# EAGLE library part MEM_NORFLASH_8PIN_EP (library !GPLIB_ACTIVE)
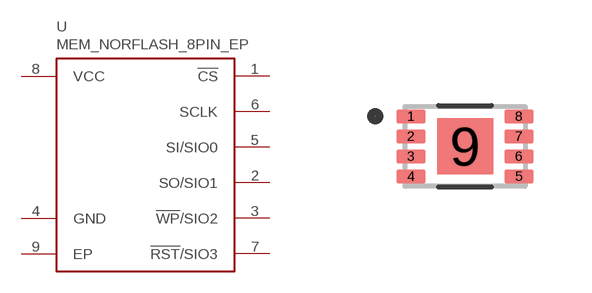
[diagram p114: symbol with the pads of PSON50P200X300X60-9N; footprint PSON50P200X300X60-9N]

Designator prefix U

## MEM_NORFLASH_8PIN_EP_256K_8_ZD25WD20BUIGR  [PSON50P200X300X60-9N]
1  !CS
2  SO/SIO1
3  !WP!/SIO2
4  GND  pwr
5  SI/SIO0
6  SCLK  in
7  !RST!/SIO3
8  VCC  pwr
9  EP  pwr

## Footprint PSON50P200X300X60-9N (pad centres in mm)
8-USON 8 PIN USON (2x3mm) 8USON
smd 0.73 x 0.35: 1 -1.35,0.75; 2 -1.35,0.25; 3 -1.35,-0.25; 4 -1.35,-0.75; 5 1.35,-0.75; 6 1.35,-0.25; 7 1.35,0.25; 8 1.35,0.75
smd 1.4 x 1.4: 9 0,0